# Altium footprint library XMAS_2023_PCBlib.PcbLib: 37 footprints (part 1 of 3)
Each footprint in its own frame and in the unit in brackets; x right, y up, seen from the top. Pads: shape width x height; smd on the part's side, far side on the other; paste and mask are expansions set on the pad; w line width, h text height; cw(c..) or ccw(c..) is an arc to the next point about the centre after c.
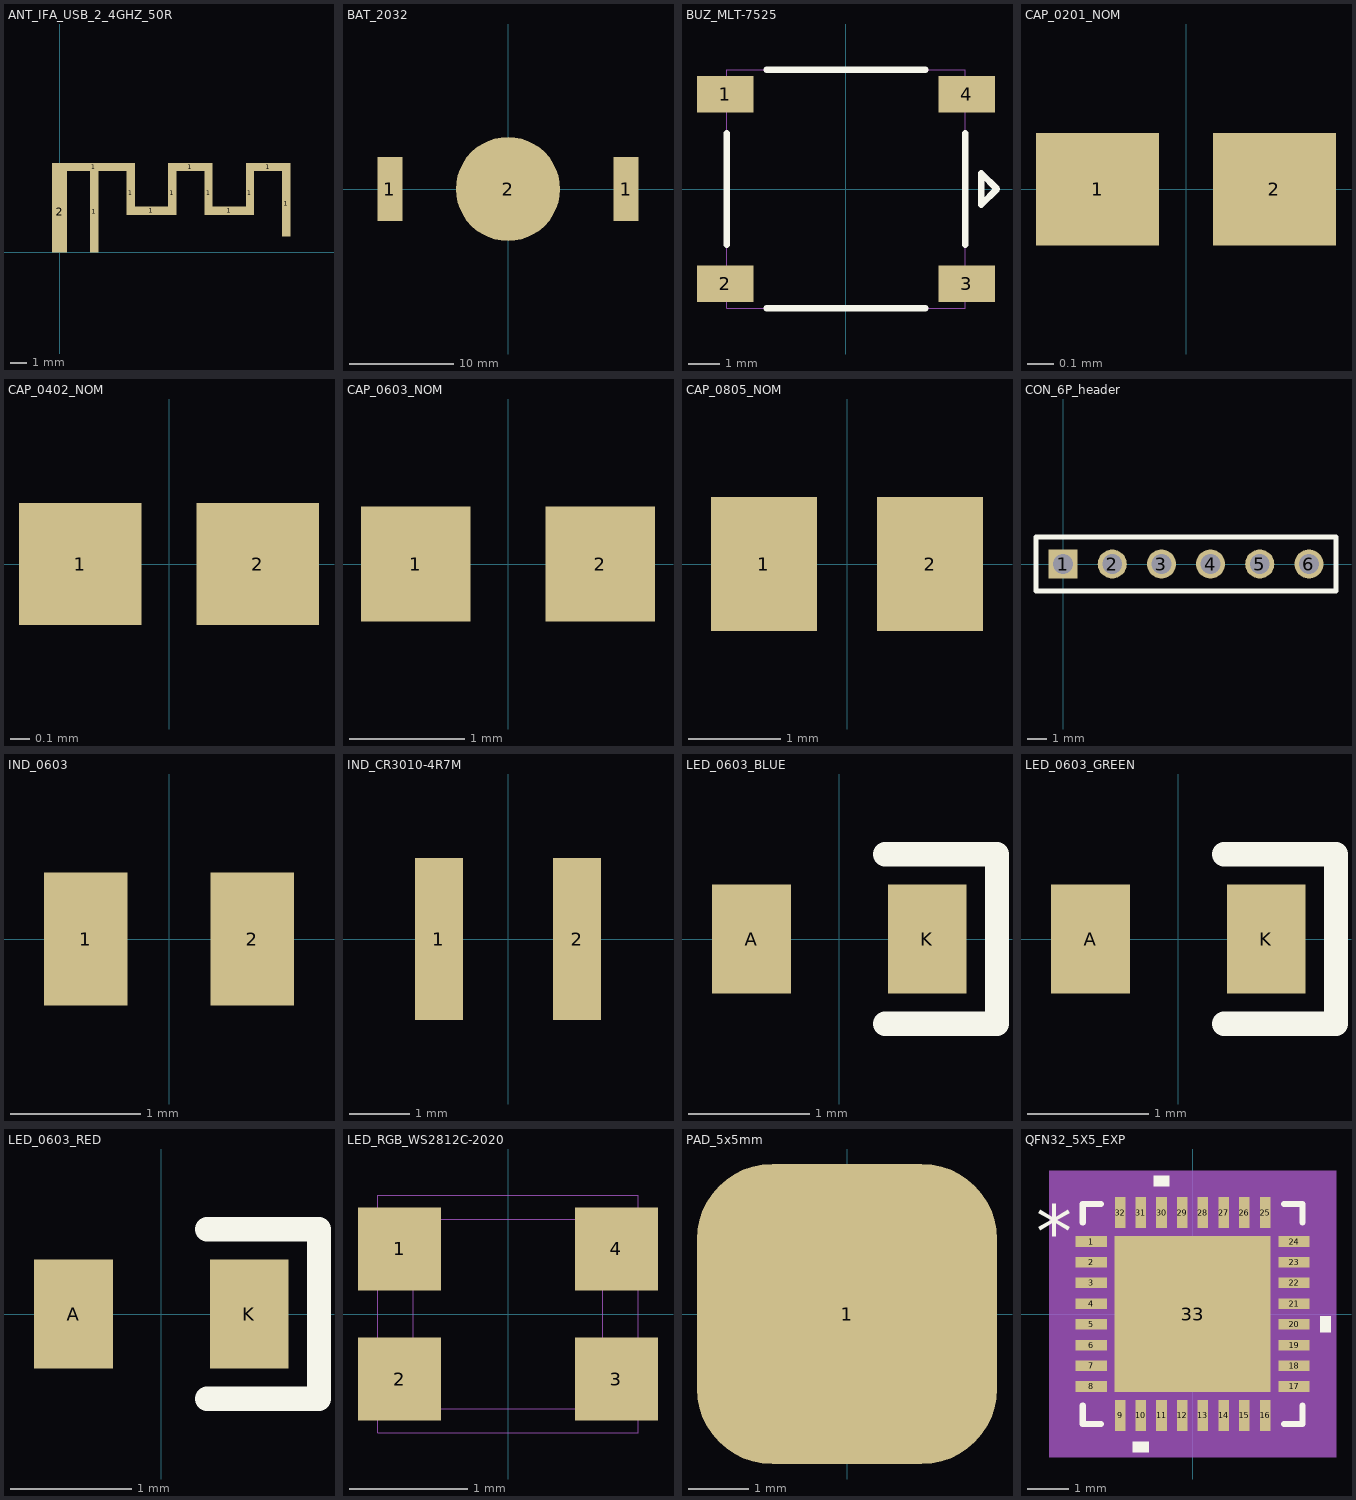
[diagram p0: the footprints below, top view; thin cyan lines are the x and y axes]

## ANT_IFA_USB_2_4GHZ_50R [mm]
pads (12):
  rect 5x0.5 smd paste-2539.97 mask+0.102: 1(2.05,5.15)
  rect 0.5x4.9 smd paste-2539.97 mask+0.102: 1(2.1,2.45)
  rect 0.5x2.64 smd paste-2539.97 mask+0.102: 1(4.3,3.58) 1(6.8,3.58) 1(9,3.58) 1(11.5,3.58)
  rect 2x0.5 smd paste-2539.97 mask+0.102: 1(5.55,2.51) 1(10.25,2.51)
  rect 2.7x0.5 smd paste-2539.97 mask+0.102: 1(7.9,5.15) 1(12.6,5.15)
  rect 0.5x3.94 smd paste-2539.97 mask+0.102: 1(13.7,2.93)
  rect 0.9x4.9 smd paste-2539.97 mask+0.102: 2(0,2.45)

## BAT_2032 [mm] "MY-2032-12 2032 battery holder"
pads (3):
  rect 2.4x6.1 smd: 1(-11.35,0) 1(11.35,0)
  round 10 smd: 2(0,0)
3D body "CR2032_closed_BH.step": height 3.67, standoff 0, extent -11.625,-7.408 11.625,7.647

## BUZ_MLT-7525 [mm] "MLT-7525 buzzer"
pads (4):
  rect 1.78x1.15 smd: 1(-3.795,2.98) 2(-3.795,-2.98) 3(3.795,-2.98) 4(3.798,2.98)
Top Overlay:
  lines w0.2: -3.75,-1.75 -3.75,1.75 ; -2.5,-3.75 2.5,-3.75 ; -2.5,3.75 2.5,3.75 ; 3.75,-1.75 3.75,1.75 ; 4.25,-0.5 4.25,0.5 4.75,0 4.25,-0.5
Mechanical 1:
  lines w0.01: -3.75,-3.75 3.75,-3.75 3.75,3.75 -3.75,3.75 -3.75,-3.75
3D body: height 2.5, standoff 0.02, extent -3.75,-3.75 3.75,3.75

## CAP_0201_NOM [mm]
pads (2):
  rect 0.46x0.42 smd mask+0.05: 1(-0.33,0) 2(0.33,0)
3D body "C0201.stp": height 0.3, standoff 0, extent -0.3,-0.155 0.3,0.145

## CAP_0402_NOM [mm]
pads (2):
  rect 0.62x0.62 smd mask+0.07: 1(-0.45,0) 2(0.45,0)
3D body "C0402.stp": height 0.5, standoff 0, extent -0.5,-0.25 0.5,0.25

## CAP_0603_NOM [mm]
pads (2):
  rect 0.95x1 smd: 1(-0.8,0) 2(0.8,0)
3D body "C0603.stp": height 0.8, standoff 0, extent -0.8,-0.405 0.8,0.395

## CAP_0805_NOM [mm]
pads (2):
  rect 1.15x1.45 smd: 1(-0.9,0) 2(0.9,0)
3D body "C0805.stp": height 1.22, standoff -0.03, extent -1,-0.63 1,0.62

## CON_6P_header [mm] "CON_6P_header male / 2.54mm pitch"
pads (6):
  rect 1.5x1.5 hole 1.02: 1(0,0)
  round 1.5 hole 1.02: 2(2.54,0) 3(5.08,0) 4(7.62,0) 5(10.16,0) 6(12.7,0)
Top Overlay:
  lines w0.254: -1.4,-1.4 14.1,-1.4 14.1,1.4 -1.4,1.4 -1.4,-1.4
3D body "Pin Header 1x6 TH Pitch 2.54mm.stp": height 9.5, standoff -3.2, extent -1.27,-1.27 13.97,1.27

## IND_0603 [mm]
pads (2):
  rect 0.64x1.02 smd: 1(-0.64,0) 2(0.64,0)
3D body "IND_0603-COIL.step": height 1.01, standoff 0, extent -0.875,-0.5 0.875,0.5

## IND_CR3010-4R7M [mm] "CR3010-4R7M"
pads (2):
  rect 0.8x2.7 smd: 1(-1.15,0) 2(1.15,0)

## LED_0603_BLUE [mm] "LED_0603_BLUE"
pads (2):
  rect 0.65x0.9 smd: A(-0.725,0) K(0.725,0)
Top Overlay:
  lines w0.2: 0.375,-0.7 1.3,-0.7 1.3,0.7 0.375,0.7
3D body "SMD_0603LED_RED.STEP": height 0.98, standoff 0.1, extent -0.808,-0.5 0.808,0.5

## LED_0603_GREEN [mm] "LED_0603_GREEN"
pads (2):
  rect 0.65x0.9 smd: A(-0.725,0) K(0.725,0)
Top Overlay:
  lines w0.2: 0.375,-0.7 1.3,-0.7 1.3,0.7 0.375,0.7
3D body "SMD_0603LED_RED.STEP": height 0.98, standoff 0.1, extent -0.808,-0.5 0.808,0.5

## LED_0603_RED [mm] "LED_0603_RED"
pads (2):
  rect 0.65x0.9 smd: A(-0.725,0) K(0.725,0)
Top Overlay:
  lines w0.2: 0.375,-0.7 1.3,-0.7 1.3,0.7 0.375,0.7
3D body "SMD_0603LED_RED.STEP": height 0.98, standoff 0.1, extent -0.808,-0.5 0.808,0.5

## LED_RGB_WS2812C-2020 [mm]
pads (4):
  rect 0.7x0.7 smd mask+0.05: 1(-0.915,0.55) 2(-0.915,-0.55) 3(0.915,-0.55) 4(0.915,0.55)
Mechanical 1:
  lines w0.01: -1.1,-1 1.1,-1 1.1,1 -1.1,1 -1.1,-1 ; -0.8,-0.8 0.8,-0.8 0.8,0.8 -0.8,0.8 -0.8,-0.8
3D body: height 0.28, standoff 0, extent -1.1,-1 1.1,1
3D body: height 0.84, standoff 0, extent -0.8,-0.8 0.8,0.8

## PAD_5x5mm [mm]
pads (1):
  rrect50% 5x5 smd: 1(0,0)

## QFN32_5X5_EXP [mm]
pads (33):
  rect 0.757x0.255 smd paste+0 mask+0: 1(-2.449,1.75) 2(-2.449,1.25) 3(-2.449,0.75) 4(-2.449,0.25) 5(-2.449,-0.25) 6(-2.449,-0.75) 7(-2.449,-1.25) 8(-2.449,-1.75) 17(2.449,-1.75) 18(2.449,-1.25) 19(2.449,-0.75) 20(2.449,-0.25) 21(2.449,0.25) 22(2.449,0.75) 23(2.449,1.25) 24(2.449,1.75)
  rect 0.255x0.757 smd paste+0 mask+0: 9(-1.75,-2.449) 10(-1.25,-2.449) 11(-0.75,-2.449) 12(-0.25,-2.449) 13(0.25,-2.449) 14(0.75,-2.449) 15(1.25,-2.449) 16(1.75,-2.449) 25(1.75,2.449) 26(1.25,2.449) 27(0.75,2.449) 28(0.25,2.449) 29(-0.25,2.449) 30(-0.75,2.449) 31(-1.25,2.449) 32(-1.75,2.449)
  rect 3.759x3.759 smd paste-1.867 mask+0: 33(0,0)
Top Overlay:
  region: -0.56,3.081 -0.941,3.081 -0.941,3.335 -0.56,3.335
  region: 3.081,-0.059 3.335,-0.059 3.335,-0.44 3.081,-0.44
  region: -1.06,-3.081 -1.441,-3.081 -1.441,-3.335 -1.06,-3.335
  lines w0.152: -2.654,-2.21 -2.654,-2.654 -2.21,-2.654 ; -2.654,2.21 -2.654,2.654 -2.21,2.654 ; 2.21,-2.654 2.654,-2.654 2.654,-2.21 ; 2.21,2.654 2.654,2.654 2.654,2.21
  text "*" at -3.78,1.365 h1.27
Top Paste:
  region: 1.78,-0.1 0.1,-0.1 0.1,-1.78 1.78,-1.78
  region: 1.78,1.78 0.1,1.78 0.1,0.1 1.78,0.1
  region: -0.1,-0.1 -1.78,-0.1 -1.78,-1.78 -0.1,-1.78
  region: -0.1,1.78 -1.78,1.78 -1.78,0.1 -0.1,0.1
Mechanical 5:
  region: 3.462,-3.462 -3.462,-3.462 -3.462,3.462 3.462,3.462
Mechanical 13:
  lines w0.025: -2.527,1.257 -1.257,2.527 ; -2.527,-2.527 -2.527,2.527 2.527,2.527 2.527,-2.527 -2.527,-2.527 ; -2.527,-1.902 -2.527,-1.598 -2.527,-1.902 ; -2.527,-1.402 -2.527,-1.098 -2.527,-1.402 ; -2.527,-0.902 -2.527,-0.598 -2.527,-0.902 ; -2.527,-0.402 -2.527,-0.098 -2.527,-0.402 ; -2.527,0.098 -2.527,0.402 -2.527,0.098 ; -2.527,0.598 -2.527,0.902 -2.527,0.598 ; -2.527,1.098 -2.527,1.402 -2.527,1.098 ; -2.527,1.598 -2.527,1.902 -2.527,1.598 ; -1.902,-2.527 -1.598,-2.527 -1.902,-2.527 ; -1.902,2.527 -1.598,2.527 -1.902,2.527 ; -1.402,-2.527 -1.098,-2.527 -1.402,-2.527 ; -1.402,2.527 -1.098,2.527 -1.402,2.527 ; -0.902,-2.527 -0.598,-2.527 -0.902,-2.527 ; -0.902,2.527 -0.598,2.527 -0.902,2.527 ; -0.402,-2.527 -0.098,-2.527 -0.402,-2.527 ; -0.402,2.527 -0.098,2.527 -0.402,2.527 ; 0.098,-2.527 0.402,-2.527 0.098,-2.527 ; 0.098,2.527 0.402,2.527 0.098,2.527 ; 0.598,-2.527 0.902,-2.527 0.598,-2.527 ; 0.598,2.527 0.902,2.527 0.598,2.527 ; 1.098,-2.527 1.402,-2.527 1.098,-2.527 ; 1.098,2.527 1.402,2.527 1.098,2.527 ; 1.598,-2.527 1.902,-2.527 1.598,-2.527 ; 1.598,2.527 1.902,2.527 1.598,2.527 ; 2.527,-1.902 2.527,-1.598 2.527,-1.902 ; 2.527,-1.402 2.527,-1.098 2.527,-1.402 ; 2.527,-0.902 2.527,-0.598 2.527,-0.902 ; 2.527,-0.402 2.527,-0.098 2.527,-0.402 ; 2.527,0.098 2.527,0.402 2.527,0.098 ; 2.527,0.598 2.527,0.902 2.527,0.598 ; 2.527,1.098 2.527,1.402 2.527,1.098 ; 2.527,1.598 2.527,1.902 2.527,1.598
  text "*" at -2.388,1.365 h1.27
Mechanical 15:
  region: -2.131,-2.781 -2.781,-2.781 -2.781,-2.131 -3.081,-2.131 -3.081,2.131 -2.781,2.131 -2.781,2.781 -2.131,2.781 -2.131,3.081 2.131,3.081 2.131,2.781 2.781,2.781 2.781,2.131 3.081,2.131 3.081,-2.131 2.781,-2.131 2.781,-2.781 2.131,-2.781 2.131,-3.081 -2.131,-3.081
  lines w0.152: -3.081,-2.131 -3.081,2.131 -2.781,2.131 -2.781,2.781 -2.131,2.781 -2.131,3.081 2.131,3.081 2.131,2.781 2.781,2.781 2.781,2.131 3.081,2.131 3.081,-2.131 2.781,-2.131 2.781,-2.781 2.131,-2.781 2.131,-3.081 -2.131,-3.081 -2.131,-2.781 -2.781,-2.781 -2.781,-2.131 -3.081,-2.131
3D body "QFN32_5X5_EXP.step": height 0.89, standoff 0, extent -2.527,-2.527 2.527,2.527